# Altium footprint library LIANGJICHAO_LIBRARY.PCBLIB: 178 footprints (part 4 of 12)
Each footprint in its own frame and in the unit in brackets; x right, y up, seen from the top. Pads: shape width x height; smd on the part's side, far side on the other; paste and mask are expansions set on the pad; w line width, h text height; cw(c..) or ccw(c..) is an arc to the next point about the centre after c.
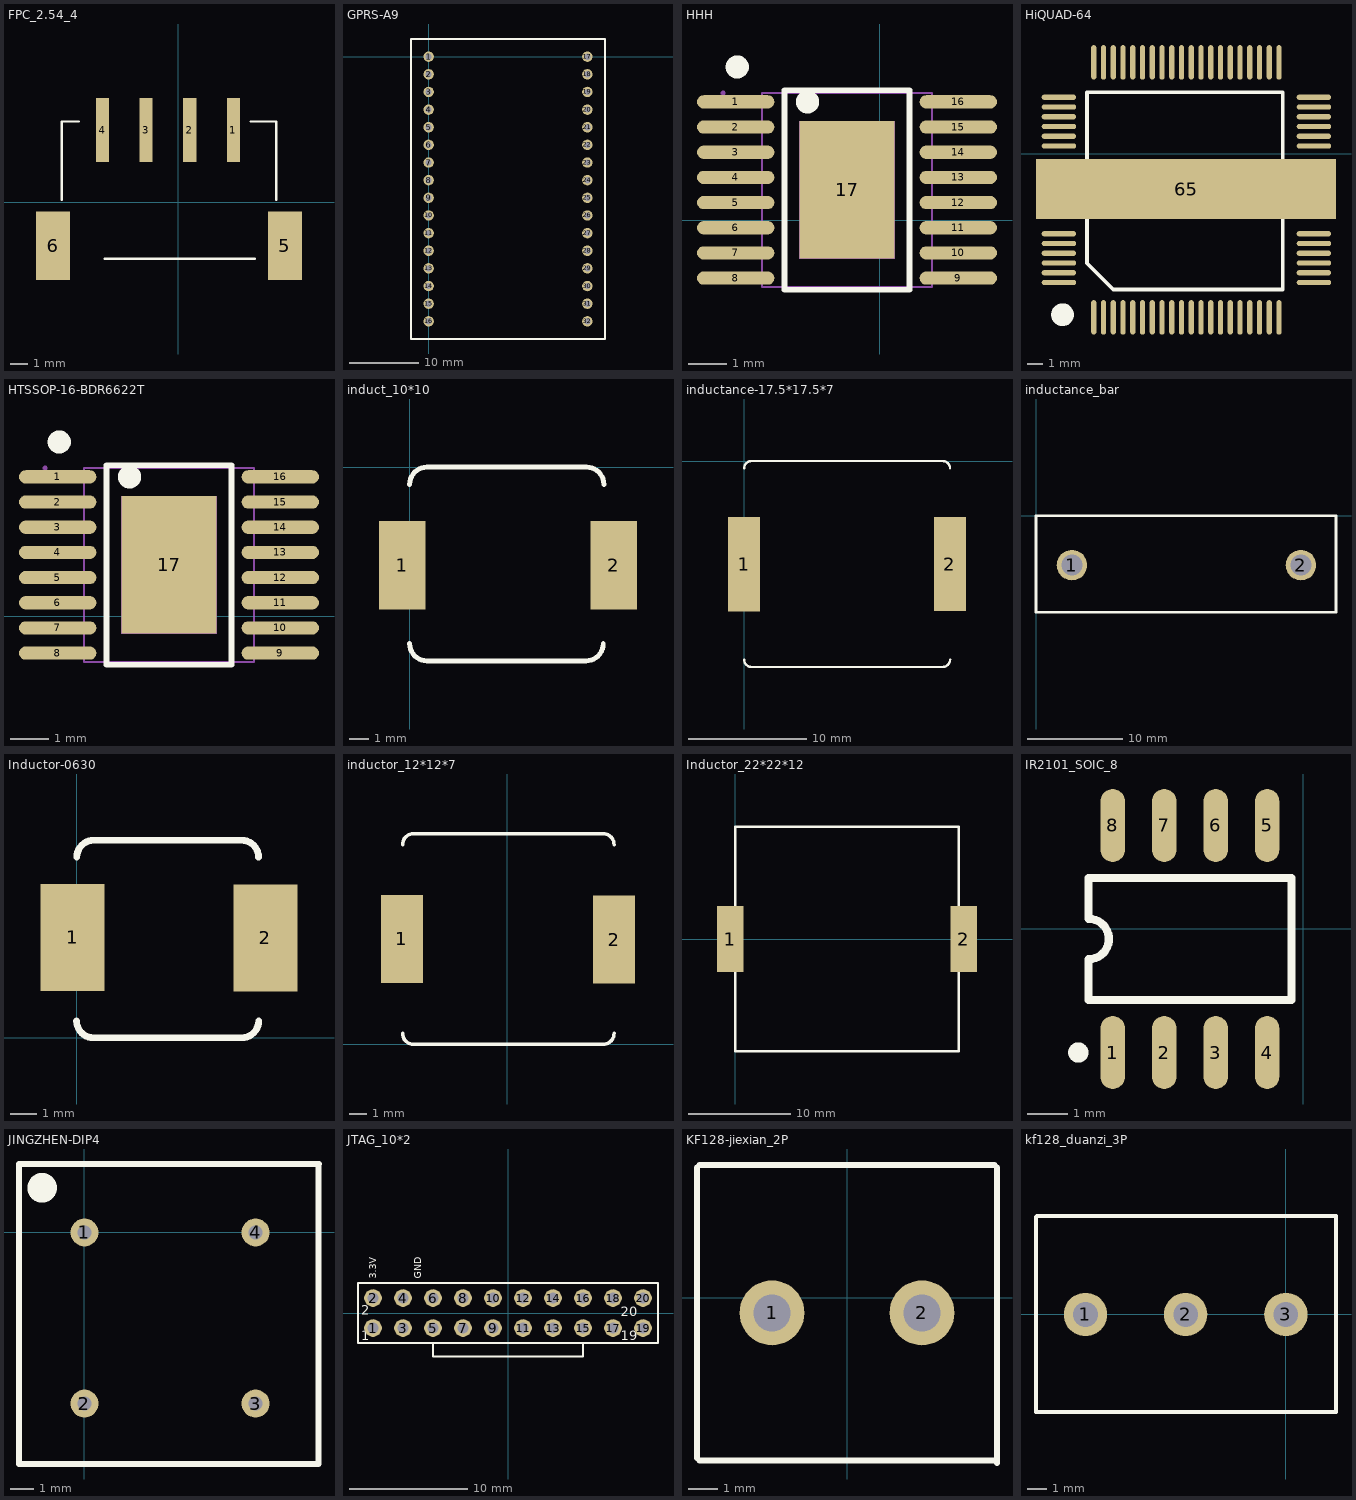
[diagram p3: the footprints below, top view; thin cyan lines are the x and y axes]

## FPC_2.54_4 [mil]
pads (6):
  rect 30x147 smd: 1(125.89,165.75) 2(25.89,165.75) 3(-74.11,165.75) 4(-174.11,165.75)
  rect 78x157 smd: 5(244,-100) 6(-287.5,-100)
Top Overlay:
  lines w5: -267.81,5.43 -267.81,185.43 -228.44,185.43 ; -169.39,-129.53 175.34,-129.53 ; 165.26,185.43 225.26,185.43 ; 224.31,5.43 224.31,185.43

## GPRS-A9 [mm]
pads (32):
  round 1.5 hole 0.9: 1(0,0) 2(0,-2.54) 3(0,-5.08) 4(0,-7.62) 5(0,-10.16) 6(0,-12.7) 7(0,-15.24) 8(0,-17.78) 9(0,-20.32) 10(0,-22.86) 11(0,-25.4) 12(0,-27.94) 13(0,-30.48) 14(0,-33.02) 15(0,-35.56) 16(0,-38.1) 17(22.86,0) 18(22.86,-2.54) 19(22.86,-5.08) 20(22.86,-7.62) 21(22.86,-10.16) 22(22.86,-12.7) 23(22.86,-15.24) 24(22.86,-17.78) 25(22.86,-20.32) 26(22.86,-22.86) 27(22.86,-25.4) 28(22.86,-27.94) 29(22.86,-30.48) 30(22.86,-33.02) 31(22.86,-35.56) 32(22.86,-38.1)
Top Overlay:
  lines w0.254: -2.54,-40.64 -2.54,2.54 25.4,2.54 25.4,-40.64 -2.54,-40.64

## HHH [mm]
pads (17):
  oval 2x0.343 smd: 1(-3.721,3.061) 2(-3.721,2.411) 3(-3.721,1.761) 4(-3.721,1.111) 5(-3.721,0.461) 6(-3.721,-0.189) 7(-3.721,-0.839) 8(-3.721,-1.489) 9(2.026,-1.489) 10(2.026,-0.839) 11(2.026,-0.189) 12(2.026,0.461) 13(2.026,1.111) 14(2.026,1.761) 15(2.026,2.411) 16(2.026,3.061)
  rect 2.46x3.55 smd: 17(-0.847,0.786)
Top Overlay:
  circle w0.3: c-1.866,3.061 r0.15
  circle w0.3: c-3.681,3.962 r0.15
  lines w0.152: -2.464,-1.79 0.762,-1.79 0.762,3.363 -2.464,3.363 -2.464,-1.79
Mechanical 15:
  region: -4.047,3.226 -4.023,3.227 -3.989,3.262 -3.989,3.311 -4.023,3.346 -4.047,3.346 -4.072,3.346 -4.106,3.311 -4.106,3.262 -4.072,3.227
  region: -4.047,3.184 -3.422,3.184 -3.422,2.939 -4.047,2.939
  region: -3.432,3.184 -3.037,3.184 -3.037,2.939 -3.432,2.939
  region: -4.047,2.534 -3.422,2.534 -3.422,2.289 -4.047,2.289
  region: -3.432,2.534 -3.037,2.534 -3.037,2.289 -3.432,2.289
  region: -4.047,1.884 -3.422,1.884 -3.422,1.639 -4.047,1.639
  region: -3.432,1.884 -3.037,1.884 -3.037,1.639 -3.432,1.639
  region: -4.047,1.234 -3.422,1.234 -3.422,0.989 -4.047,0.989
  region: -3.432,1.234 -3.037,1.234 -3.037,0.989 -3.432,0.989
  region: -4.047,0.584 -3.422,0.584 -3.422,0.339 -4.047,0.339
  region: -3.432,0.584 -3.037,0.584 -3.037,0.339 -3.432,0.339
  region: -4.047,-0.066 -3.422,-0.066 -3.422,-0.311 -4.047,-0.311
  region: -3.432,-0.066 -3.037,-0.066 -3.037,-0.311 -3.432,-0.311
  region: -4.047,-0.716 -3.422,-0.716 -3.422,-0.961 -4.047,-0.961
  region: -3.432,-0.716 -3.037,-0.716 -3.037,-0.961 -3.432,-0.961
  region: -4.047,-1.366 -3.422,-1.366 -3.422,-1.611 -4.047,-1.611
  region: -3.432,-1.366 -3.037,-1.366 -3.037,-1.611 -3.432,-1.611
  region: 2.353,3.184 1.728,3.184 1.728,2.939 2.353,2.939
  region: 1.738,3.184 1.343,3.184 1.343,2.939 1.738,2.939
  region: 2.353,2.534 1.728,2.534 1.728,2.289 2.353,2.289
  region: 1.738,2.534 1.343,2.534 1.343,2.289 1.738,2.289
  region: 2.353,1.884 1.728,1.884 1.728,1.639 2.353,1.639
  region: 1.738,1.884 1.343,1.884 1.343,1.639 1.738,1.639
  region: 2.353,1.234 1.728,1.234 1.728,0.989 2.353,0.989
  region: 1.738,1.234 1.343,1.234 1.343,0.989 1.738,0.989
  region: 2.353,0.584 1.728,0.584 1.728,0.339 2.353,0.339
  region: 1.738,0.584 1.343,0.584 1.343,0.339 1.738,0.339
  region: 2.353,-0.066 1.728,-0.066 1.728,-0.311 2.353,-0.311
  region: 1.738,-0.066 1.343,-0.066 1.343,-0.311 1.738,-0.311
  region: 2.353,-0.716 1.728,-0.716 1.728,-0.961 2.353,-0.961
  region: 1.738,-0.716 1.343,-0.716 1.343,-0.961 1.738,-0.961
  region: 2.353,-1.366 1.728,-1.366 1.728,-1.611 2.353,-1.611
  region: 1.738,-1.366 1.343,-1.366 1.343,-1.611 1.738,-1.611
  region: 0.383,2.561 0.383,-0.989 -2.077,-0.989 -2.077,2.561
  lines w0.051: -3.047,-1.714 1.353,-1.714 1.353,3.286 -3.047,3.286 -3.047,-1.714

## HiQUAD-64 [mm]
pads (65):
  oval 0.35x2.3 smd: 1(6.909,-10.922) 2(7.559,-10.922) 3(8.209,-10.922) 4(8.859,-10.922) 5(9.509,-10.922) 6(10.159,-10.922) 7(10.809,-10.922) 8(11.459,-10.922) 9(12.109,-10.922) 10(12.759,-10.922) 11(13.409,-10.922) 12(14.059,-10.922) 13(14.709,-10.922) 14(15.359,-10.922) 15(16.009,-10.922) 16(16.659,-10.922) 17(17.309,-10.922) 18(17.959,-10.922) 19(18.609,-10.922) 20(19.259,-10.922) 33(19.259,6.078) 34(18.609,6.078) 35(17.959,6.078) 36(17.309,6.078) 37(16.659,6.078) 38(16.009,6.078) 39(15.359,6.078) 40(14.709,6.078) 41(14.059,6.078) 42(13.409,6.078) 43(12.759,6.078) 44(12.109,6.078) 45(11.459,6.078) 46(10.809,6.078) 47(10.159,6.078) 48(9.509,6.078) 49(8.859,6.078) 50(8.209,6.078) 51(7.559,6.078) 52(6.909,6.078)
  oval 2.3x0.35 smd: 21(21.584,-8.597) 22(21.584,-7.947) 23(21.584,-7.297) 24(21.584,-6.647) 25(21.584,-5.997) 26(21.584,-5.347) 27(21.584,0.503) 28(21.584,1.153) 29(21.584,1.803) 30(21.584,2.453) 31(21.584,3.103) 32(21.584,3.753) 53(4.584,3.753) 54(4.584,3.103) 55(4.584,2.453) 56(4.584,1.803) 57(4.584,1.153) 58(4.584,0.503) 59(4.584,-5.347) 60(4.584,-5.997) 61(4.584,-6.647) 62(4.584,-7.297) 63(4.584,-7.947) 64(4.584,-8.597)
  rect 20x4 smd: 65(13.056,-2.362)
Top Overlay:
  circle w0.8: c4.822,-10.744 r0.359
  lines w0.254: 6.452,-7.315 6.452,4.089 19.507,4.089 19.507,-9.068 8.204,-9.068 6.452,-7.315

## HTSSOP-16-BDR6622T [mm]
pads (17):
  oval 2x0.343 smd: 1(1.791,3.595) 2(1.791,2.945) 3(1.791,2.295) 4(1.791,1.645) 5(1.791,0.995) 6(1.791,0.345) 7(1.791,-0.305) 8(1.791,-0.955) 9(7.538,-0.955) 10(7.538,-0.305) 11(7.538,0.345) 12(7.538,0.995) 13(7.538,1.645) 14(7.538,2.295) 15(7.538,2.945) 16(7.538,3.595)
  rect 2.46x3.55 smd: 17(4.664,1.32)
Top Overlay:
  circle w0.3: c1.831,4.496 r0.15
  circle w0.3: c3.645,3.595 r0.15
  lines w0.152: 3.048,-1.256 3.048,3.896 6.274,3.896 6.274,-1.256 3.048,-1.256
Mechanical 15:
  region: 5.894,3.095 5.894,-0.455 3.434,-0.455 3.434,3.095
  region: 7.249,-0.833 6.854,-0.833 6.854,-1.078 7.249,-1.078
  region: 7.864,-0.833 7.239,-0.833 7.239,-1.078 7.864,-1.078
  region: 7.249,-0.183 6.854,-0.183 6.854,-0.428 7.249,-0.428
  region: 7.864,-0.183 7.239,-0.183 7.239,-0.428 7.864,-0.428
  region: 7.249,0.467 6.854,0.467 6.854,0.222 7.249,0.222
  region: 7.864,0.467 7.239,0.467 7.239,0.222 7.864,0.222
  region: 7.249,1.117 6.854,1.117 6.854,0.872 7.249,0.872
  region: 7.864,1.117 7.239,1.117 7.239,0.872 7.864,0.872
  region: 7.249,1.767 6.854,1.767 6.854,1.522 7.249,1.522
  region: 7.864,1.767 7.239,1.767 7.239,1.522 7.864,1.522
  region: 7.249,2.417 6.854,2.417 6.854,2.172 7.249,2.172
  region: 7.864,2.417 7.239,2.417 7.239,2.172 7.864,2.172
  region: 7.249,3.067 6.854,3.067 6.854,2.822 7.249,2.822
  region: 7.864,3.067 7.239,3.067 7.239,2.822 7.864,2.822
  region: 7.249,3.717 6.854,3.717 6.854,3.472 7.249,3.472
  region: 7.864,3.717 7.239,3.717 7.239,3.472 7.864,3.472
  region: 2.079,-0.833 2.474,-0.833 2.474,-1.078 2.079,-1.078
  region: 1.464,-0.833 2.089,-0.833 2.089,-1.078 1.464,-1.078
  region: 2.079,-0.183 2.474,-0.183 2.474,-0.428 2.079,-0.428
  region: 1.464,-0.183 2.089,-0.183 2.089,-0.428 1.464,-0.428
  region: 2.079,0.467 2.474,0.467 2.474,0.222 2.079,0.222
  region: 1.464,0.467 2.089,0.467 2.089,0.222 1.464,0.222
  region: 2.079,1.117 2.474,1.117 2.474,0.872 2.079,0.872
  region: 1.464,1.117 2.089,1.117 2.089,0.872 1.464,0.872
  region: 2.079,1.767 2.474,1.767 2.474,1.522 2.079,1.522
  region: 1.464,1.767 2.089,1.767 2.089,1.522 1.464,1.522
  region: 2.079,2.417 2.474,2.417 2.474,2.172 2.079,2.172
  region: 1.464,2.417 2.089,2.417 2.089,2.172 1.464,2.172
  region: 2.079,3.067 2.474,3.067 2.474,2.822 2.079,2.822
  region: 1.464,3.067 2.089,3.067 2.089,2.822 1.464,2.822
  region: 2.079,3.717 2.474,3.717 2.474,3.472 2.079,3.472
  region: 1.464,3.717 2.089,3.717 2.089,3.472 1.464,3.472
  region: 1.465,3.76 1.489,3.76 1.523,3.795 1.523,3.844 1.489,3.879 1.465,3.88 1.44,3.879 1.406,3.844 1.406,3.795 1.44,3.76
  lines w0.051: 2.464,-1.18 2.464,3.82 6.864,3.82 6.864,-1.18 2.464,-1.18

## induct_10*10 [mil]
pads (2):
  rect 94.49x180 smd: 1(-15,-200) 2(415,-200)
Top Overlay:
  lines w10: 0,-359 ccw(c35,-359) 35,-394 358.7,-394 ccw(c358.7,-359) 393.7,-359 ; 0,-35 cw(c35,-35) 35,0 360,0 cw(c360,-35) 395,-35

## inductance-17.5*17.5*7 [mm]
pads (2):
  rect 2.7x8 smd: 1(0,-8.763) 2(17.487,-8.75)
Top Overlay:
  lines w0.2: 0,-16.866 ccw(c0.63,-16.866) 0.63,-17.496 16.871,-17.496 ccw(c16.871,-16.866) 17.501,-16.866 ; 0,-0.63 cw(c0.63,-0.63) 0.63,0 16.87,0 cw(c16.87,-0.63) 17.5,-0.63

## inductance_bar [mm]
pads (2):
  round 3.2 hole 2.2: 1(3.771,-5.17) 2(27.771,-5.17)
Top Overlay:
  lines w0.3: 0,-10.109 0,0 31.445,0 31.445,-10.109 0,-10.109

## Inductor-0630 [mm]
pads (2):
  rect 2.4x4 smd: 1(-0.152,3.759) 2(7.061,3.734)
Top Overlay:
  lines w0.254: 0,0.635 ccw(c0.63,0.635) 0.63,0.005 ; 0.007,6.756 cw(c0.637,6.756) 0.637,7.386 6.17,7.386 ; 0.635,0.007 6.168,0.007 ; 6.172,7.384 cw(c6.172,6.754) 6.802,6.754 ; 6.177,0.005 ccw(c6.177,0.635) 6.807,0.635

## inductor_12*12*7 [mm]
pads (2):
  rect 2.4x5 smd: 1(-6,6) 2(6.09,5.969)
Top Overlay:
  lines w0.2: -5.964,0.63 ccw(c-5.334,0.63) -5.334,0 5.401,0 ; -5.964,11.37 cw(c-5.334,11.37) -5.334,12 5.46,12 cw(c5.46,11.37) 6.09,11.37 ; 5.46,0 ccw(c5.46,0.63) 6.09,0.63

## Inductor_22*22*12 [mm]
pads (2):
  rect 2.6x6.5 smd: 1(-0.5,0) 2(22.5,0)
Top Overlay:
  lines w0.254: 0,-3.302 0,-11.049 21.971,-11.049 21.971,-3.302 ; 0,3.302 0,11.049 21.971,11.049 21.971,3.302

## IR2101_SOIC_8 [mm]
pads (8):
  oval 0.6x1.8 smd: 1(-4.699,-3.054) 2(-3.429,-3.054) 3(-2.159,-3.054) 4(-0.889,-3.054) 5(-0.889,2.546) 6(-2.159,2.546) 7(-3.429,2.546) 8(-4.699,2.546)
Top Overlay:
  circle w0.25: c-5.549,-3.054 r0.125
  lines w0.2: -5.294,-1.754 -5.294,-0.754 ccw(c-5.294,-0.254) -5.294,0.246 -5.294,1.246 -0.294,1.246 -0.294,-1.754 -5.294,-1.754

## JINGZHEN-DIP4 [mm]
pads (4):
  round 1.2 hole 0.6: 1(0,0) 2(0,-7.3) 3(7.3,-7.3) 4(7.3,0)
Top Overlay:
  circle w0.7: c-1.808,1.905 r0.284
  lines w0.254: 9.979,2.894 9.979,-9.879 -2.794,-9.879 -2.794,2.921 10.006,2.921

## JTAG_10*2 [mm]
pads (20):
  round 1.5 hole 0.9: 1(-11.43,-1.27) 2(-11.43,1.27) 3(-8.89,-1.27) 4(-8.89,1.27) 5(-6.35,-1.27) 6(-6.35,1.27) 7(-3.81,-1.27) 8(-3.81,1.27) 9(-1.27,-1.27) 10(-1.27,1.27) 11(1.27,-1.27) 12(1.27,1.27) 13(3.81,-1.27) 14(3.81,1.27) 15(6.35,-1.27) 16(6.35,1.27) 17(8.89,-1.27) 18(8.89,1.27) 19(11.43,-1.27) 20(11.43,1.27)
Top Overlay:
  lines w0.2: -6.35,-2.54 -6.35,-3.302 -6.35,-3.683 6.35,-3.683 6.35,-2.54 ; -12.7,-2.54 -12.7,2.54 -10.795,2.54 12.7,2.54 12.7,-2.54 -10.795,-2.54 -12.7,-2.54
  text "2" at -12.446,-0.127 h0.8
  text "1" at -12.446,-2.286 h0.8
  text "19" at 9.525,-2.286 h0.8
  text "20" at 9.525,-0.254 h0.8
  text "3.3V" at -11.176,2.921 h0.6
  text "GND" at -7.366,2.921 h0.6

## KF128-jiexian_2P [mm]
pads (2):
  round 2.2 hole 1.25: 1(-2.54,-0.508) 2(2.54,-0.508)
Top Overlay:
  lines w0.2: -5.08,-5.428 -5.08,-0.508 -5.08,4.412 ; -5,-5.508 -2.54,-5.508 5,-5.508 ; -5,4.492 -2.54,4.492 4.492,4.492 5,4.492 ; 5.08,-5.588 5.08,-0.508 5.08,4.412

## kf128_duanzi_3P [mm]
pads (3):
  round 2.2 hole 1.25: 1(-10.16,0) 2(-5.08,0) 3(0,0)
Top Overlay:
  lines w0.2: -12.667,4.953 -12.667,-4.953 2.54,-4.953 2.54,5 -12.62,5